# EAGLE library part IRS2336D (library RoboJackets-PowerICs)
IRS2336D International Rectifier 3 Phase Gate Driver IC Voffset<=600V Vout=10-20V ton=530ns toff=530ns Deadtime=275ns Over-current protection Shoot-through protection
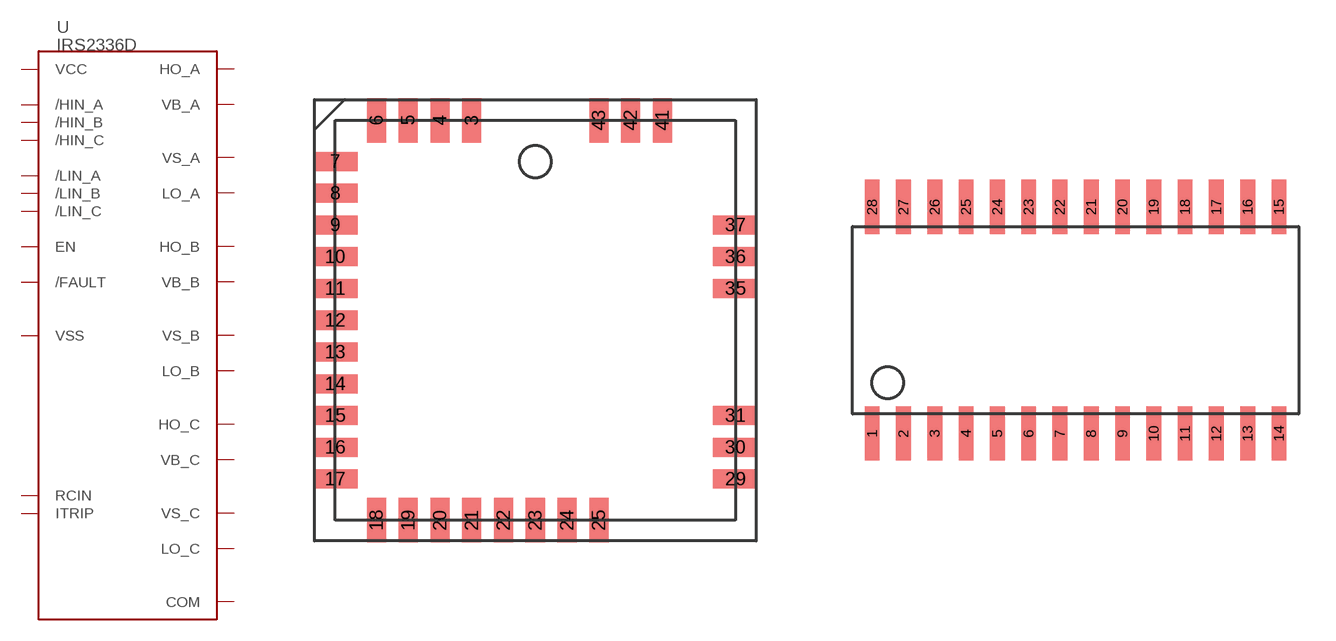
[diagram p4: symbol with the pads of PLCC44(-12); footprints PLCC44(-12), SO-28W]

Designator prefix U

## IRS2336D  [PLCC44(-12)]
3  VCC
4  /HIN_A
5  /HIN_B
6  /HIN_C
8  /LIN_A
9  /LIN_B
10  /LIN_C
12  /FAULT
14  ITRIP
16  EN
17  RCIN
19  VSS
22  COM
23  LO_C
24  LO_B
25  LO_A
29  VS_C
30  HO_C
31  VB_C
35  VS_B
36  HO_B
37  VB_B
41  VS_A
42  HO_A
43  VB_A

## IRS2336DSOIC28W  [SO-28W]
1  VCC
2  /HIN_A
3  /HIN_B
4  /HIN_C
5  /LIN_A
6  /LIN_B
7  /LIN_C
8  /FAULT
9  ITRIP
10  EN
11  RCIN
12  VSS
13  COM
14  LO_C
15  LO_B
16  LO_A
18  VS_C
19  HO_C
20  VB_C
22  VS_B
23  HO_B
24  VB_B
26  VS_A
27  HO_A
28  VB_A

## Footprint PLCC44(-12) (pad centres in mm)
smd 0.762 x 1.778: 3 -2.54,8.001; 4 -3.81,8.001; 5 -5.08,8.001; 6 -6.35,8.001; 18 -6.35,-8.001; 19 -5.08,-8.001; 20 -3.81,-8.001; 21 -2.54,-8.001; 22 -1.27,-8.001; 23 0,-8.001; 24 1.27,-8.001; 25 2.54,-8.001; 41 5.08,8.001; 42 3.81,8.001; 43 2.54,8.001
smd 1.778 x 0.762: 7 -8.001,6.35; 8 -8.001,5.08; 9 -8.001,3.81; 10 -8.001,2.54; 11 -8.001,1.27; 12 -8.001,0; 13 -8.001,-1.27; 14 -8.001,-2.54; 15 -8.001,-3.81; 16 -8.001,-5.08; 17 -8.001,-6.35; 29 8.001,-6.35; 30 8.001,-5.08; 31 8.001,-3.81; 35 8.001,1.27; 36 8.001,2.54; 37 8.001,3.81

## Footprint SO-28W (pad centres in mm)
smd 0.6 x 2.2: 1 -8.255,-4.6; 2 -6.985,-4.6; 3 -5.715,-4.6; 4 -4.445,-4.6; 5 -3.175,-4.6; 6 -1.905,-4.6; 7 -0.635,-4.6; 8 0.635,-4.6; 9 1.905,-4.6; 10 3.175,-4.6; 11 4.445,-4.6; 12 5.715,-4.6; 13 6.985,-4.6; 14 8.255,-4.6; 15 8.255,4.6; 16 6.985,4.6; 17 5.715,4.6; 18 4.445,4.6; 19 3.175,4.6; 20 1.905,4.6; 21 0.635,4.6; 22 -0.635,4.6; 23 -1.905,4.6; 24 -3.175,4.6; 25 -4.445,4.6; 26 -5.715,4.6; 27 -6.985,4.6; 28 -8.255,4.6